# Altium footprint library Screw Terminals.PcbLib: 2 footprints
Each footprint in its own frame and in the unit in brackets; x right, y up, seen from the top. Pads: shape width x height; smd on the part's side, far side on the other; paste and mask are expansions set on the pad; w line width, h text height; cw(c..) or ccw(c..) is an arc to the next point about the centre after c.
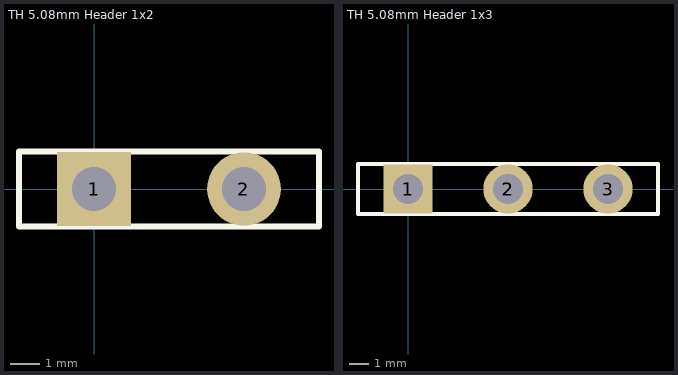
[diagram p0: the footprints below, top view; thin cyan lines are the x and y axes]

## TH 5.08mm Header 1x2 [mm]
pads (2):
  rect 2.5x2.5 hole 1.5: 1(0,0)
  round 2.5 hole 1.5: 2(5.08,0)
Top Overlay:
  lines w0.2: -2.54,-1.27 7.62,-1.27 7.62,1.27 -2.54,1.27 -2.54,-1.27
3D body "Screw Terminal Block 5mm Blue 2-way.step": height 10, standoff -2, extent -2.54,-3.98 7.61,4.02

## TH 5.08mm Header 1x3 [mm]
pads (4):
  rect 2.5x2.5 hole 1.5: 1(0,0)
  round 2.5 hole 1.5: 2(5.08,0) 3(10.16,0)
  round 1.8 hole 1.2: 2(5.08,0)
Top Overlay:
  lines w0.2: -2.54,-1.27 -2.54,1.27 12.7,1.27 12.7,-1.27 -2.54,-1.27
3D body "Screw Terminal Block 5mm Blue 3-way.step": height 10, standoff -2, extent -2.57,-4 12.58,4